# EAGLE library part TITAN-X1-GMS-3302 (library clackboard_lib)
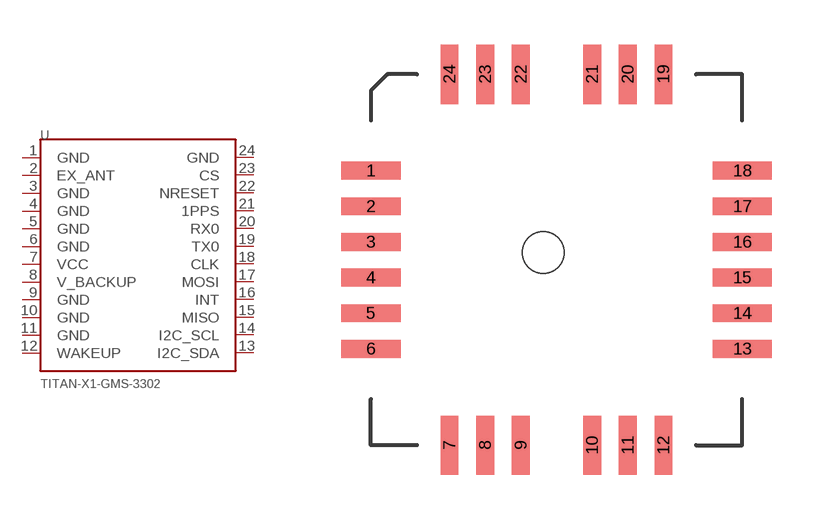
[diagram p9: symbol with the pads of TITAN-X1-GMS-3302; footprint TITAN-X1-GMS-3302]

Designator prefix U

## TITAN-X1-GMS-3302  [TITAN-X1-GMS-3302]
1  GND
2  EX_ANT
3  GND
4  GND
5  GND
6  GND
7  VCC
8  V_BACKUP
9  GND
10  GND
11  GND
12  WAKEUP
13  I2C_SDA
14  I2C_SCL
15  MISO
16  INT
17  MOSI
18  CLK
19  TX0
20  RX0
21  1PPS
22  NRESET
23  CS
24  GND

## Footprint TITAN-X1-GMS-3302 (pad centres in mm)
smd 2 x 0.6: 1 -6.25,3; 2 -6.25,1.8; 3 -6.25,0.6; 4 -6.25,-0.6; 5 -6.25,-1.8; 6 -6.25,-3; 13 6.25,-3; 14 6.25,-1.8; 15 6.25,-0.6; 16 6.25,0.6; 17 6.25,1.8; 18 6.25,3
smd 0.6 x 2: 7 -3.6,-6.25; 8 -2.4,-6.25; 9 -1.2,-6.25; 10 1.2,-6.25; 11 2.4,-6.25; 12 3.6,-6.25; 19 3.6,6.25; 20 2.4,6.25; 21 1.2,6.25; 22 -1.2,6.25; 23 -2.4,6.25; 24 -3.6,6.25
hole 1.4 at -0.45,0.25